# Altium integrated library Altimeter-Library.IntLib: 1 symbol
Pins are listed as number, name and electrical type; pins without a type are passive.

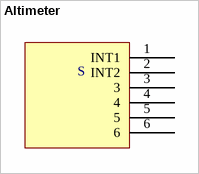
[diagram p0: symbol Altimeter]

## Altimeter
designator S
footprint altimeter_footprint
footprint PCBComponent_1
pins: 1 INT1, 2 INT2, 3, 4, 5, 6